# Altium footprint library BGA9C40P3X3_114X114X63.pcblib: 1 footprints
Each footprint in its own frame and in the unit in brackets; x right, y up, seen from the top. Pads: shape width x height; smd on the part's side, far side on the other; paste and mask are expansions set on the pad; w line width, h text height; cw(c..) or ccw(c..) is an arc to the next point about the centre after c.
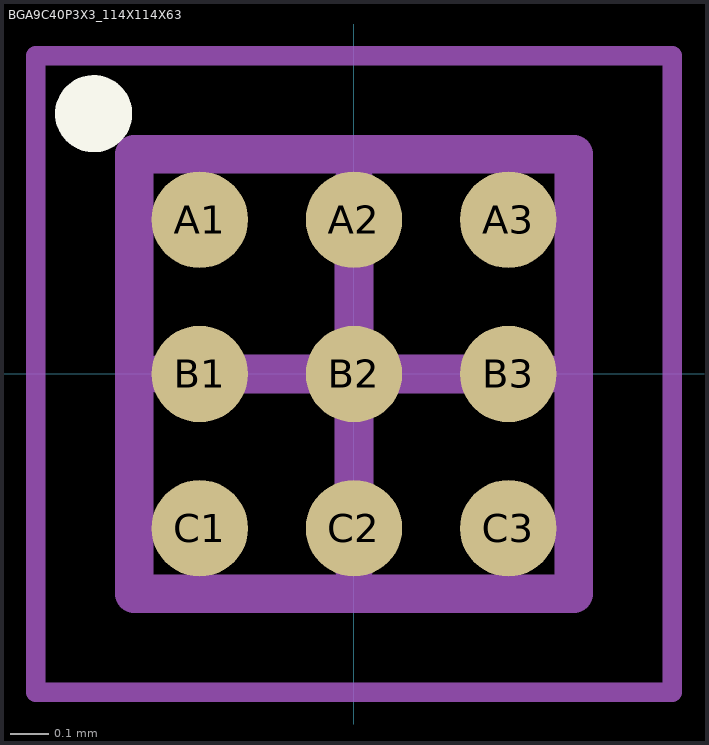
[diagram p0: the footprint, top view; thin cyan lines are the x and y axes]

## BGA9C40P3X3_114X114X63 [mm] "BGA, 9-Leads, Body 1.14x1.14mmx0.63mm, Pitch 0.40mm WLCSP9"
height 0.63
pads (9):
  round 0.25 smd mask+0.05: A1(-0.4,0.4) A2(0,0.4) A3(0.4,0.4) B1(-0.4,0) B2(0,0) B3(0.4,0) C1(-0.4,-0.4) C2(0,-0.4) C3(0.4,-0.4)
Top Overlay:
  circle w0.1: c-0.675,0.675 r0.05
Mechanical 2:
  lines w0.1: -0.57,-0.57 0.57,-0.57 0.57,0.57 -0.57,0.57 -0.57,-0.57
Mechanical 4:
  lines w0.05: -0.825,-0.825 0.825,-0.825 0.825,0.825 -0.825,0.825 -0.825,-0.825
  lines w0.1: -0.5,0 0.5,0 ; 0,-0.5 0,0.5
3D body "BGA9C40P3X3_114X114X63.step": height 0.61, standoff -0.02, extent -0.57,-0.57 0.57,0.57